# Altium schematic symbol library NRC7394.SchLib: 1 symbol
Pins are listed as number, name and electrical type; pins without a type are passive.

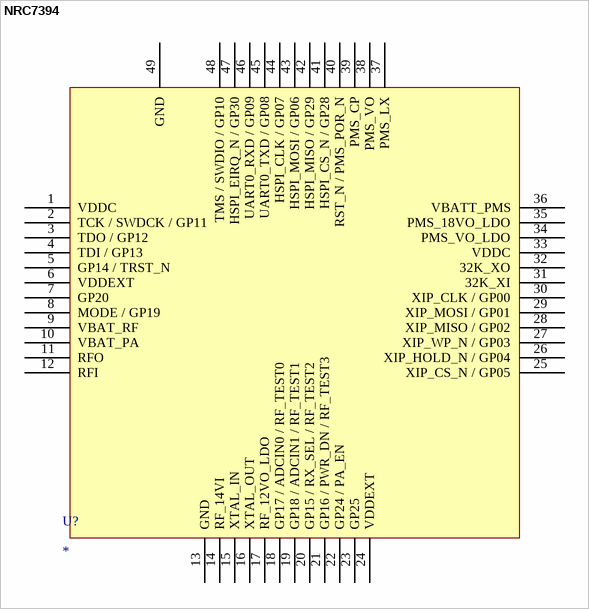
[diagram p0: symbol NRC7394]

## NRC7394
designator U?
NRC7394 WiFi HaLow chipset
pins: 1 VDDC, 2 TCK / SWDCK / GP11, 3 TDO / GP12, 4 TDI / GP13, 5 GP14 / TRST_N, 6 VDDEXT, 7 GP20, 8 MODE / GP19, 9 VBAT_RF, 10 VBAT_PA, 11 RFO, 12 RFI, 13 GND, 14 RF_14VI, 15 XTAL_IN, 16 XTAL_OUT, 17 RF_12VO_LDO, 18 GP17 / ADCIN0 / RF_TEST0, 19 GP18 / ADCIN1 / RF_TEST1, 20 GP15 / RX_SEL / RF_TEST2, 21 GP16 / PWR_DN / RF_TEST3, 22 GP24 / PA_EN, 23 GP25, 24 VDDEXT, 25 XIP_CS_N / GP05, 26 XIP_HOLD_N / GP04, 27 XIP_WP_N / GP03, 28 XIP_MISO / GP02, 29 XIP_MOSI / GP01, 30 XIP_CLK / GP00, 31 32K_XI, 32 32K_XO, 33 VDDC, 34 PMS_VO_LDO, 35 PMS_18VO_LDO, 36 VBATT_PMS, 37 PMS_LX, 38 PMS_VO, 39 PMS_CP, 40 RST_N / PMS_POR_N, 41 HSPI_CS_N / GP28, 42 HSPI_MISO / GP29, 43 HSPI_MOSI / GP06, 44 HSPI_CLK / GP07, 45 UART0_TXD / GP08, 46 UART0_RXD / GP09, 47 HSPI_EIRQ_N / GP30, 48 TMS / SWDIO / GP10, 49 GND